# Altium footprint library 24 RESISTORS_THD_AX14_8mm_P.PcbLib: 9 footprints
Each footprint in its own frame and in the unit in brackets; x right, y up, seen from the top. Pads: shape width x height; smd on the part's side, far side on the other; paste and mask are expansions set on the pad; w line width, h text height; cw(c..) or ccw(c..) is an arc to the next point about the centre after c.
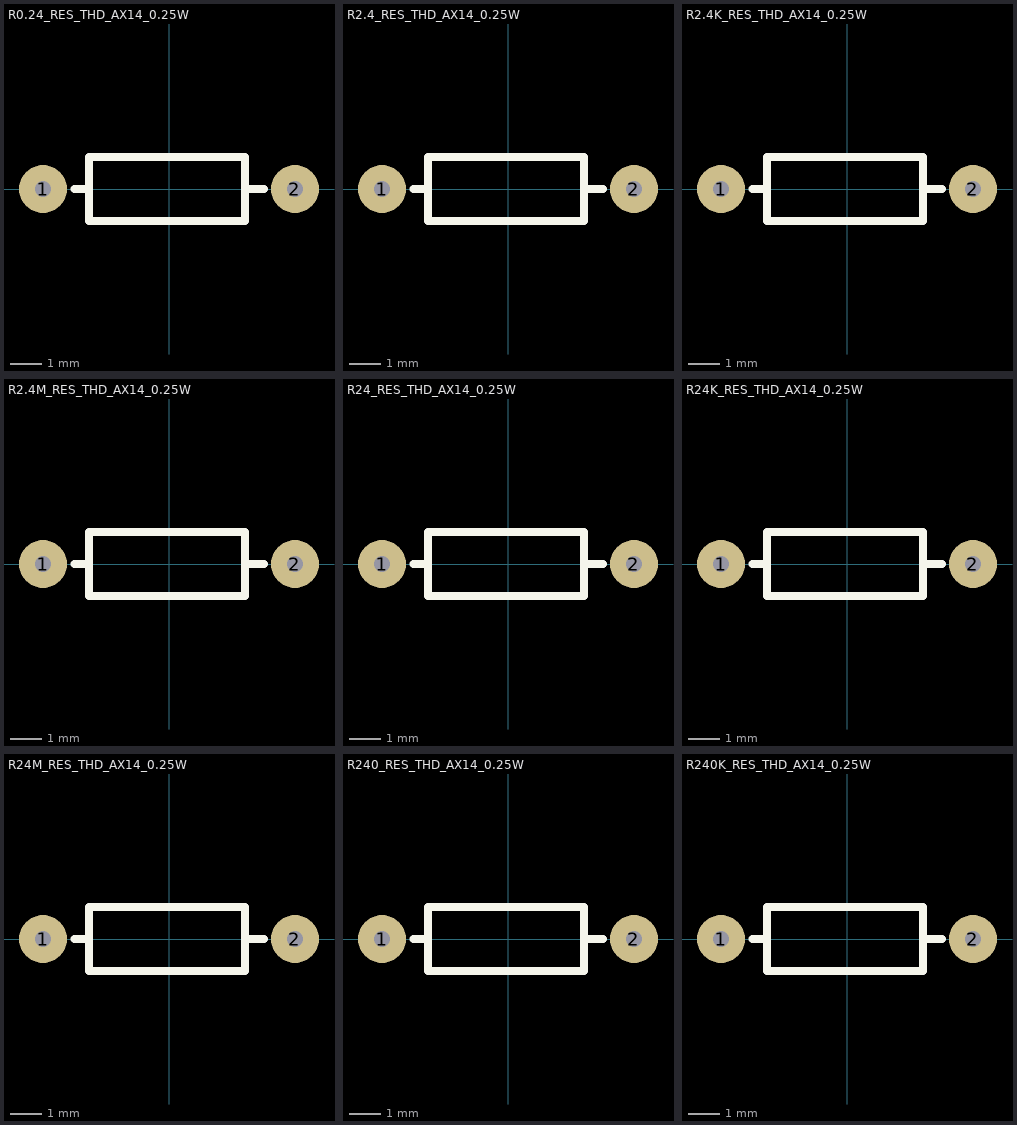
[diagram p0: the footprints below, top view; thin cyan lines are the x and y axes]

## R0.24_RES_THD_AX14_0.25W [mil] "RESISTOR 0.24 Ohm  THD AX14 0.25W Length  8mm"
pads (2):
  round 60 hole 19.68: 1(-157.48,0) 2(157.48,0)
Top Overlay:
  lines w10: -118.28,0 -100.6,0 ; 95,0 118.49,0 ; -100,-40 95,-40 95,40 -100,40 -100,-40
3D body "RES_THD_ASR_ASRM_0.24.STEP": height 96.5, standoff -96.46, extent -167.32,-45.33 167.32,45.33

## R2.4_RES_THD_AX14_0.25W [mil] "RESISTOR 2.4 Ohm  THD AX14 0.25W Length  8mm"
pads (2):
  round 60 hole 19.68: 1(-157.48,0) 2(157.48,0)
Top Overlay:
  lines w10: -118.28,0 -100.6,0 ; 95,0 118.49,0 ; -100,-40 -100,40 95,40 95,-40 -100,-40
3D body "RES_THD_ASR_ASRM_2.4.STEP": height 96.5, standoff -96.46, extent -167.32,-45.33 167.32,45.33

## R2.4K_RES_THD_AX14_0.25W [mil] "RESISTOR 2.4K Ohm  THD AX14 0.25W Length  8mm"
pads (2):
  round 60 hole 19.68: 1(-157.48,0) 2(157.48,0)
Top Overlay:
  lines w10: -118.28,0 -100.6,0 ; 95,0 118.49,0 ; -100,-40 -100,40 95,40 95,-40 -100,-40
3D body "RES_THD_ASR_ASRM_2.4K.STEP": height 96.5, standoff -96.46, extent -167.32,-45.33 167.32,45.33

## R2.4M_RES_THD_AX14_0.25W [mil] "RESISTOR 2.4M Ohm  THD AX14 0.25W Length  8mm"
pads (2):
  round 60 hole 19.68: 1(-157.48,0) 2(157.48,0)
Top Overlay:
  lines w10: -118.28,0 -100.6,0 ; 95,0 118.49,0 ; -100,-40 95,-40 95,40 -100,40 -100,-40
3D body "RES_THD_ASR_ASRM_2.4M.STEP": height 96.5, standoff -96.46, extent -167.32,-45.33 167.32,45.33

## R24_RES_THD_AX14_0.25W [mil] "RESISTOR 24 Ohm  THD AX14 0.25W Length  8mm"
pads (2):
  round 60 hole 19.68: 1(-157.48,0) 2(157.48,0)
Top Overlay:
  lines w10: -118.28,0 -100.6,0 ; 95,0 118.49,0 ; -100,-40 -100,40 95,40 95,-40 -100,-40
3D body "RES_THD_ASR_ASRM_24.STEP": height 96.5, standoff -96.46, extent -167.32,-45.33 167.32,45.33

## R24K_RES_THD_AX14_0.25W [mil] "RESISTOR 24K Ohm  THD AX14 0.25W Length  8mm"
pads (2):
  round 60 hole 19.68: 1(-157.48,0) 2(157.48,0)
Top Overlay:
  lines w10: -118.28,0 -100.6,0 ; 95,0 118.49,0 ; -100,-40 -100,40 95,40 95,-40 -100,-40
3D body "RES_THD_ASR_ASRM_24K.STEP": height 96.5, standoff -96.46, extent -167.32,-45.33 167.32,45.33

## R24M_RES_THD_AX14_0.25W [mil] "RESISTOR 24M Ohm  THD AX14 0.25W Length  8mm"
pads (2):
  round 60 hole 19.68: 1(-157.48,0) 2(157.48,0)
Top Overlay:
  lines w10: -118.28,0 -100.6,0 ; 95,0 118.49,0 ; -100,-40 -100,40 95,40 95,-40 -100,-40
3D body "RES_THD_ASR_ASRM_24M.STEP": height 96.5, standoff -96.46, extent -167.32,-45.33 167.32,45.33

## R240_RES_THD_AX14_0.25W [mil] "RESISTOR 240 Ohm  THD AX14 0.25W Length  8mm"
pads (2):
  round 60 hole 19.68: 1(-157.48,0) 2(157.48,0)
Top Overlay:
  lines w10: -118.28,0 -100.6,0 ; 95,0 118.49,0 ; -100,-40 -100,40 95,40 95,-40 -100,-40
3D body "RES_THD_ASR_ASRM_240.STEP": height 96.5, standoff -96.46, extent -167.32,-45.33 167.32,45.33

## R240K_RES_THD_AX14_0.25W [mil] "RESISTOR 240K Ohm  THD AX14 0.25W Length  8mm"
pads (2):
  round 60 hole 19.68: 1(-157.48,0) 2(157.48,0)
Top Overlay:
  lines w10: -118.28,0 -100.6,0 ; 95,0 118.49,0 ; -100,-40 95,-40 95,40 -100,40 -100,-40
3D body "RES_THD_ASR_ASRM_240K.STEP": height 96.5, standoff -96.46, extent -167.32,-45.33 167.32,45.33